# EAGLE library part USB-C (library hugo)
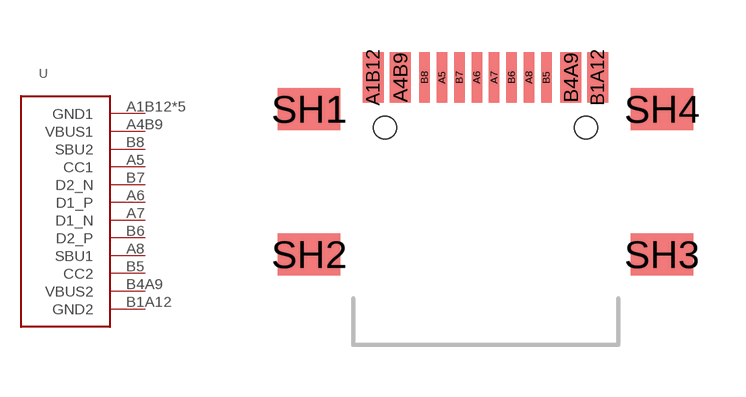
[diagram p3: symbol with the pads of USB-C; footprint USB-C]

Designator prefix -

## USB-C  [USB-C]
A1B12  GND1
A4B9  VBUS1
A5  CC1
A6  D1_P
A7  D1_N
A8  SBU1
B1A12  GND2
B4A9  VBUS2
B5  CC2
B6  D2_P
B7  D2_N
B8  SBU2
SH1  GND1
SH2  GND1
SH3  GND1
SH4  GND1

## Footprint USB-C (pad centres in mm)
smd 0.6 x 1.45: A1B12 -3.235,3.825; A4B9 -2.46,3.825; B1A12 3.215,3.825; B4A9 2.44,3.825
smd 0.3 x 1.45: A5 -1.26,3.825; A6 -0.26,3.825; A7 0.24,3.825; A8 1.24,3.825; B5 1.74,3.825; B6 0.74,3.825; B7 -0.76,3.825; B8 -1.76,3.825
smd 1.8 x 1.2: SH1 -5.08,2.91; SH2 -5.08,-1.27; SH3 5.06,-1.27; SH4 5.06,2.91
hole 0.65 at 2.88,2.38
hole 0.65 at -2.9,2.38